# Altium schematic symbol library Header 4X2H.Schlib: 1 symbol
Pins are listed as number, name and electrical type; pins without a type are passive.

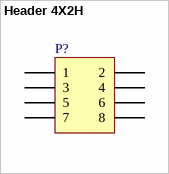
[diagram p0: symbol Header 4X2H]

## Header 4X2H
designator P?
Header, 4-Pin, Dual row, Right Angle
pins: 1, 2, 3, 4, 5, 6, 7, 8